# Altium integrated library TI_Logic_Specialty_Logic.IntLib: 2504 symbols (part 59 of 81)
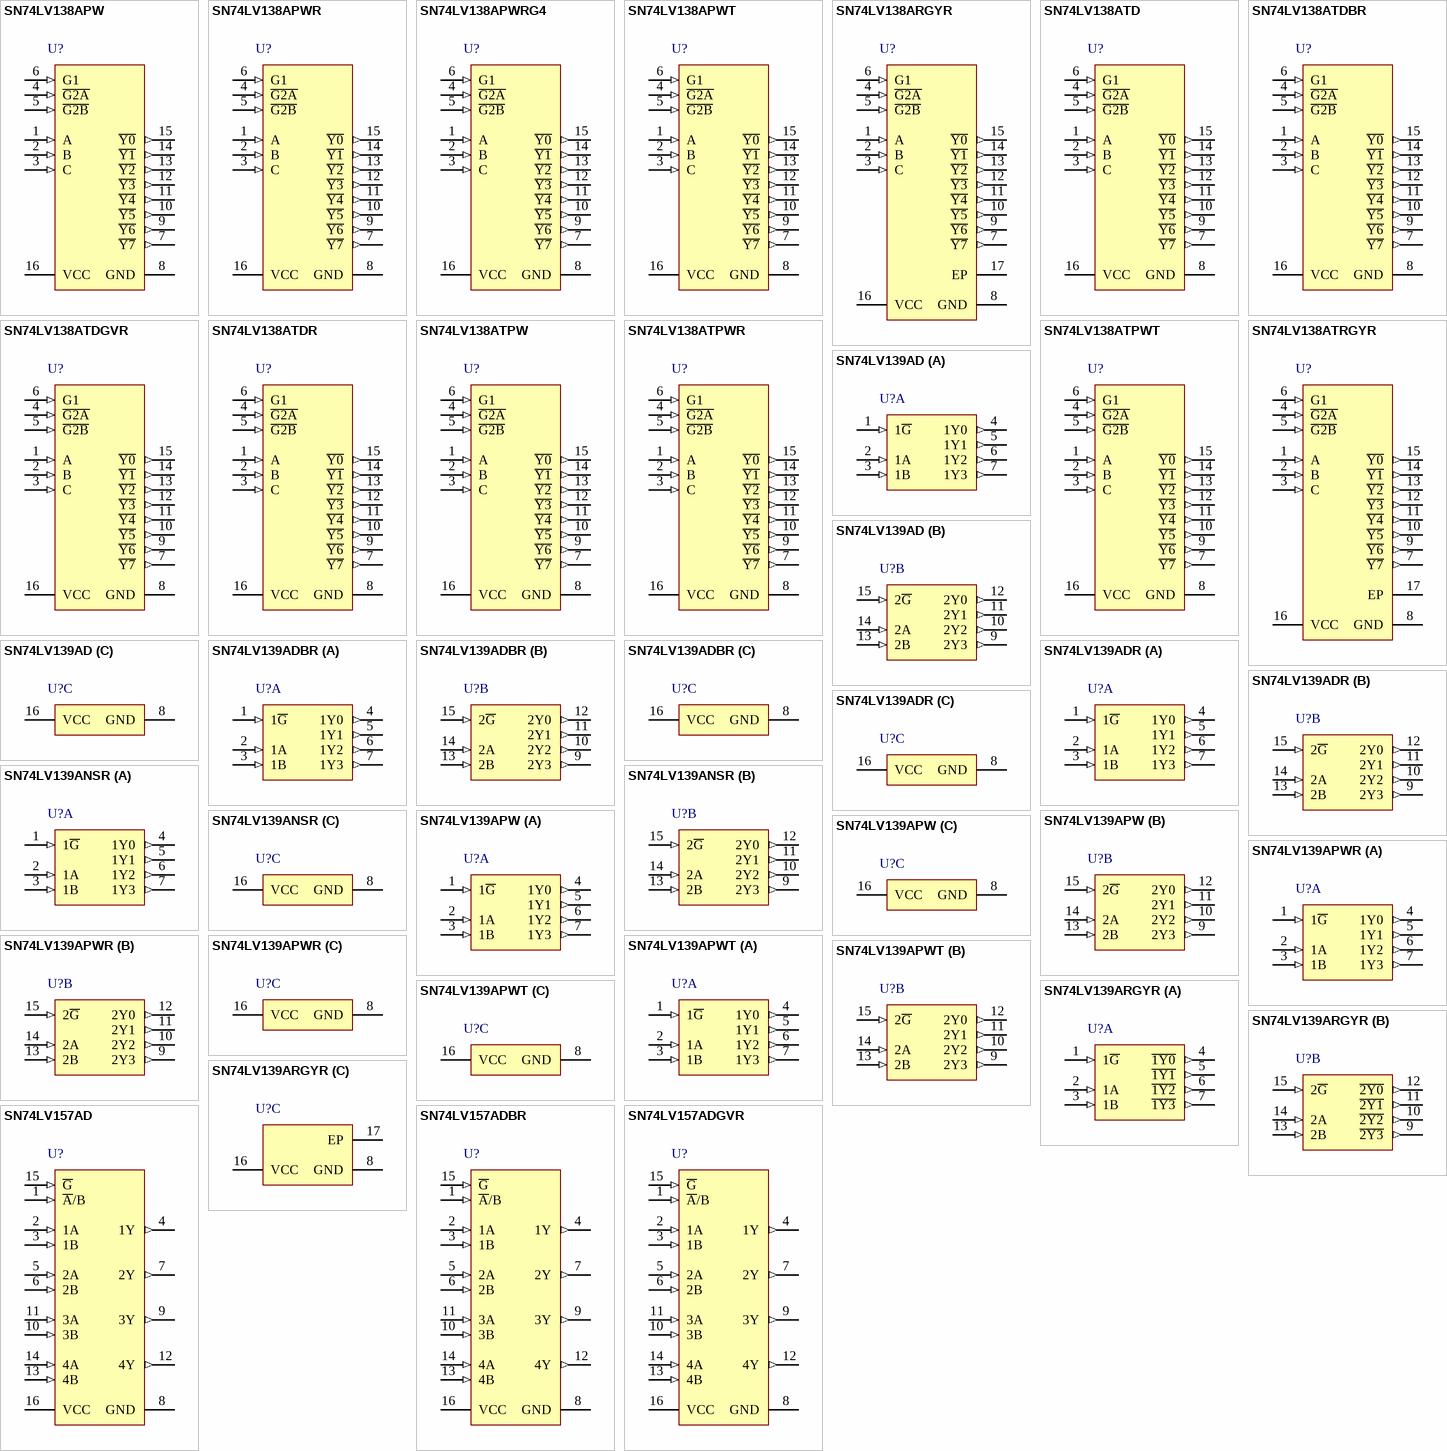
[diagram p162: symbols SN74LV138APW to SN74LV157ADGVR]

## SN74LV138APWRG4
designator U?
3-Line To 8-Line Decoders/Demultiplexers, PW0016A, LARGE T&R; Generic Part Number: SN74LV138A; Manufacturer: Texas Instruments; PartNumber: SN74LV138APWRG4; VCC(Min)(V): 2; VCC(Max)(V): 5.5; Output Type: CMOS; Function: Decoder/Demultiplexer; ICC @ Nom Voltage(Max)(mA): 0.02; Input Type: LVTTL/CMOS; Bits(#): 8; F @ Nom Voltage(Max)(Mhz): 70; Configuration: 3：8; Channels(#): 1; Rating: Catalog; Technology Family: LV-A; Voltage(Nom)(V): 2.5,3.3,5; Schmitt Trigger: No; Output Drive (IOL/IOH)(Max)(mA): 12/-12; tpd @ Nom Voltage(Max)(ns): 22,15,9.5; DatasheetVersion: SCLS395L; PackageReference: PW0016A; Supplier 1: Mouser; Supplier Part Number 1: 595-SN74LV138APWRG4; Supplier 2: Digi-Key; Supplier Part Number 2: 296-41636-2-ND; Supplier 3: Digi-Key; Supplier Part Number 3: 296-41636-1-ND; Supplier 4: Digi-Key; Supplier Part Number 4: 296-41636-6-ND; Operating Temperature Range(C): -40 to 85; Type: Standard; Code_JEDEC: MO-153; ComponentLink1Description: Manufacturer URL; ComponentLink1URL: http://www.ti.com/; ComponentLink2Description: Datasheet; ComponentLink2URL: http://www.ti.com/lit/ds/symlink/sn74lv138a.pdf; ComponentLink3Description: Package Specification; ComponentLink3URL: http://www.ti.com/lit/ml/mpds361/mpds361.pdf
footprint PW0016A_N (SOP, 16-Leads, Body 5.1x4.5mm, Pitch 0.65mm, IPC Medium Density)
footprint PW0016A_M (SOP, 16-Leads, Body 5.1x4.5mm, Pitch 0.65mm, IPC Low Density)
footprint PW0016A_L (SOP, 16-Leads, Body 5.1x4.5mm, Pitch 0.65mm, IPC High Density)
pins: 1 A (in), 2 B (in), 3 C (in), 4 ~{G2A} (in), 5 ~{G2B} (in), 6 G1 (in), 7 ~{Y7} (out), 8 GND (power), 9 ~{Y6} (out), 10 ~{Y5} (out), 11 ~{Y4} (out), 12 ~{Y3} (out), 13 ~{Y2} (out), 14 ~{Y1} (out), 15 ~{Y0} (out), 16 VCC (power)

## SN74LV138APWT
designator U?
3-Line To 8-Line Decoders/Demultiplexers, PW0016A, SMALL T&R; Generic Part Number: SN74LV138A; Manufacturer: Texas Instruments; PartNumber: SN74LV138APWT; VCC(Min)(V): 2; VCC(Max)(V): 5.5; Output Type: CMOS; Function: Decoder/Demultiplexer; ICC @ Nom Voltage(Max)(mA): 0.02; Input Type: LVTTL/CMOS; Bits(#): 8; F @ Nom Voltage(Max)(Mhz): 70; Configuration: 3：8; Channels(#): 1; Rating: Catalog; Technology Family: LV-A; Voltage(Nom)(V): 2.5,3.3,5; Schmitt Trigger: No; Output Drive (IOL/IOH)(Max)(mA): 12/-12; tpd @ Nom Voltage(Max)(ns): 22,15,9.5; DatasheetVersion: SCLS395L; PackageReference: PW0016A; Supplier 1: Mouser; Supplier Part Number 1: 595-SN74LV138APWT; Supplier 2: Digi-Key; Supplier Part Number 2: 296-28664-2-ND; Supplier 3: Digi-Key; Supplier Part Number 3: 296-28664-1-ND; Supplier 4: Digi-Key; Supplier Part Number 4: 296-28664-6-ND; Operating Temperature Range(C): -40 to 85; Type: Standard; Code_JEDEC: MO-153; ComponentLink1Description: Manufacturer URL; ComponentLink1URL: http://www.ti.com/; ComponentLink2Description: Datasheet; ComponentLink2URL: http://www.ti.com/lit/ds/symlink/sn74lv138a.pdf; ComponentLink3Description: Package Specification; ComponentLink3URL: http://www.ti.com/lit/ml/mpds361/mpds361.pdf
footprint PW0016A_N (SOP, 16-Leads, Body 5.1x4.5mm, Pitch 0.65mm, IPC Medium Density)
footprint PW0016A_M (SOP, 16-Leads, Body 5.1x4.5mm, Pitch 0.65mm, IPC Low Density)
footprint PW0016A_L (SOP, 16-Leads, Body 5.1x4.5mm, Pitch 0.65mm, IPC High Density)
pins: 1 A (in), 2 B (in), 3 C (in), 4 ~{G2A} (in), 5 ~{G2B} (in), 6 G1 (in), 7 ~{Y7} (out), 8 GND (power), 9 ~{Y6} (out), 10 ~{Y5} (out), 11 ~{Y4} (out), 12 ~{Y3} (out), 13 ~{Y2} (out), 14 ~{Y1} (out), 15 ~{Y0} (out), 16 VCC (power)

## SN74LV138ARGYR
designator U?
3-Line To 8-Line Decoders/Demultiplexers, RGY0016A, LARGE T&R; Generic Part Number: SN74LV138A; Manufacturer: Texas Instruments; PartNumber: SN74LV138ARGYR; VCC(Min)(V): 2; VCC(Max)(V): 5.5; Output Type: CMOS; Function: Decoder/Demultiplexer; ICC @ Nom Voltage(Max)(mA): 0.02; Input Type: LVTTL/CMOS; Bits(#): 8; F @ Nom Voltage(Max)(Mhz): 70; Configuration: 3：8; Channels(#): 1; Rating: Catalog; Technology Family: LV-A; Voltage(Nom)(V): 2.5,3.3,5; Schmitt Trigger: No; Output Drive (IOL/IOH)(Max)(mA): 12/-12; tpd @ Nom Voltage(Max)(ns): 22,15,9.5; DatasheetVersion: SCLS395L; PackageReference: RGY0016A; Supplier 1: Mouser; Supplier Part Number 1: 595-SN74LV138ARGYR; Supplier 2: Digi-Key; Supplier Part Number 2: 296-13933-2-ND; Supplier 3: Digi-Key; Supplier Part Number 3: 296-13933-1-ND; Supplier 4: Digi-Key; Supplier Part Number 4: 296-13933-6-ND; Operating Temperature Range(C): -40 to 85; Type: Standard; Code_JEDEC: MO-241; ComponentLink1Description: Manufacturer URL; ComponentLink1URL: http://www.ti.com/; ComponentLink2Description: Datasheet; ComponentLink2URL: http://www.ti.com/lit/ds/symlink/sn74lv138a.pdf; ComponentLink3Description: Package Specification; ComponentLink3URL: http://www.ti.com/lit/ml/mpqf115g/mpqf115g.pdf
footprint RGY0016A_V (QFN, 16-Leads, Body 4x3.5mm, Thermal Pad 2.55x2.05mm, TI Recommend)
pins: 1 A (in), 2 B (in), 3 C (in), 4 ~{G2A} (in), 5 ~{G2B} (in), 6 G1 (in), 7 ~{Y7} (out), 8 GND (power), 9 ~{Y6} (out), 10 ~{Y5} (out), 11 ~{Y4} (out), 12 ~{Y3} (out), 13 ~{Y2} (out), 14 ~{Y1} (out), 15 ~{Y0} (out), 16 VCC (power), 17 EP

## SN74LV138ATD
designator U?
3-Line To 8-Line Decoder/Demultiplexers, D0016A, TUBE; Generic Part Number: SN74LV138AT; Manufacturer: Texas Instruments; PartNumber: SN74LV138ATD; VCC(Min)(V): 4.5; VCC(Max)(V): 5.5; Output Type: CMOS; ICC @ Nom Voltage(Max)(mA): 0.02; Input Type: TTL; Bits(#): 8; F @ Nom Voltage(Max)(Mhz): 70; Configuration: 3：8; Channels(#): 1; Rating: Catalog; Technology Family: LV-AT; Voltage(Nom)(V): 3.3; Schmitt Trigger: No; Output Drive (IOL/IOH)(Max)(mA): 12/-12; tpd @ Nom Voltage(Max)(ns): 13; DatasheetVersion: SCLS691; PackageReference: D0016A; Supplier 1: Mouser; Supplier Part Number 1: 595-SN74LV138ATD; Supplier 2: Digi-Key; Supplier Part Number 2: SN74LV138ATD-ND; Function: Decoder/Demultiplexer; Operating Temperature Range(C): -40 to 125; Type: Standard; Code_JEDEC: MS-012 variation AC; ComponentLink1Description: Manufacturer URL; ComponentLink1URL: http://www.ti.com/; ComponentLink2Description: Datasheet; ComponentLink2URL: http://www.ti.com/lit/ds/symlink/sn74lv138at.pdf; ComponentLink3Description: Package Specification; ComponentLink3URL: http://www.ti.com/lit/ml/mpds178g/mpds178g.pdf
footprint D0016A_N (SOIC, 16-Leads, Body 10x4mm, Pitch 1.27mm, IPC Medium Density)
footprint D0016A_M (SOIC, 16-Leads, Body 10x4mm, Pitch 1.27mm, IPC Low Density)
footprint D0016A_L (SOIC, 16-Leads, Body 10x4mm, Pitch 1.27mm, IPC High Density)
pins: 1 A (in), 2 B (in), 3 C (in), 4 ~{G2A} (in), 5 ~{G2B} (in), 6 G1 (in), 7 ~{Y7} (out), 8 GND (power), 9 ~{Y6} (out), 10 ~{Y5} (out), 11 ~{Y4} (out), 12 ~{Y3} (out), 13 ~{Y2} (out), 14 ~{Y1} (out), 15 ~{Y0} (out), 16 VCC (power)

## SN74LV138ATDBR
designator U?
3-Line To 8-Line Decoder/Demultiplexers, DB0016A, LARGE T&R; Generic Part Number: SN74LV138AT; Manufacturer: Texas Instruments; PartNumber: SN74LV138ATDBR; VCC(Min)(V): 4.5; VCC(Max)(V): 5.5; Output Type: CMOS; ICC @ Nom Voltage(Max)(mA): 0.02; Input Type: TTL; Bits(#): 8; F @ Nom Voltage(Max)(Mhz): 70; Configuration: 3：8; Channels(#): 1; Rating: Catalog; Technology Family: LV-AT; Voltage(Nom)(V): 3.3; Schmitt Trigger: No; Output Drive (IOL/IOH)(Max)(mA): 12/-12; tpd @ Nom Voltage(Max)(ns): 13; DatasheetVersion: SCLS691; PackageReference: DB0016A; Supplier 1: Mouser; Supplier Part Number 1: 595-SN74LV138ATDBR; Supplier 2: Digi-Key; Supplier Part Number 2: 296-21032-2-ND; Supplier 3: Digi-Key; Supplier Part Number 3: 296-21032-1-ND; Supplier 4: Digi-Key; Supplier Part Number 4: 296-21032-6-ND; Function: Decoder/Demultiplexer; Operating Temperature Range(C): -40 to 125; Type: Standard; Code_JEDEC: MO-150; ComponentLink1Description: Manufacturer URL; ComponentLink1URL: http://www.ti.com/; ComponentLink2Description: Datasheet; ComponentLink2URL: http://www.ti.com/lit/ds/symlink/sn74lv138at.pdf; ComponentLink3Description: Package Specification; ComponentLink3URL: http://www.ti.com/lit/ml/mpds507/mpds507.pdf
footprint DB0016A_N (SOP, 16-Leads, Body 5.6x6.5mm, Pitch 0.65mm, IPC Medium Density)
footprint DB0016A_M (SOP, 16-Leads, Body 5.6x6.5mm, Pitch 0.65mm, IPC Low Density)
footprint DB0016A_L (SOP, 16-Leads, Body 5.6x6.5mm, Pitch 0.65mm, IPC High Density)
pins: 1 A (in), 2 B (in), 3 C (in), 4 ~{G2A} (in), 5 ~{G2B} (in), 6 G1 (in), 7 ~{Y7} (out), 8 GND (power), 9 ~{Y6} (out), 10 ~{Y5} (out), 11 ~{Y4} (out), 12 ~{Y3} (out), 13 ~{Y2} (out), 14 ~{Y1} (out), 15 ~{Y0} (out), 16 VCC (power)

## SN74LV138ATDGVR
designator U?
3-Line To 8-Line Decoder/Demultiplexers, DGV0016A, LARGE T&R; Generic Part Number: SN74LV138AT; Manufacturer: Texas Instruments; PartNumber: SN74LV138ATDGVR; VCC(Min)(V): 4.5; VCC(Max)(V): 5.5; Output Type: CMOS; ICC @ Nom Voltage(Max)(mA): 0.02; Input Type: TTL; Bits(#): 8; F @ Nom Voltage(Max)(Mhz): 70; Configuration: 3：8; Channels(#): 1; Rating: Catalog; Technology Family: LV-AT; Voltage(Nom)(V): 3.3; Schmitt Trigger: No; Output Drive (IOL/IOH)(Max)(mA): 12/-12; tpd @ Nom Voltage(Max)(ns): 13; DatasheetVersion: SCLS691; PackageReference: DGV0016A; Supplier 1: Mouser; Supplier Part Number 1: 595-SN74LV138ATDGVR; Supplier 2: Digi-Key; Supplier Part Number 2: 296-21033-2-ND; Supplier 3: Digi-Key; Supplier Part Number 3: 296-21033-1-ND; Supplier 4: Digi-Key; Supplier Part Number 4: 296-21033-6-ND; Function: Decoder/Demultiplexer; Operating Temperature Range(C): -40 to 125; Type: Standard; Code_JEDEC: MO-194; ComponentLink1Description: Manufacturer URL; ComponentLink1URL: http://www.ti.com/; ComponentLink2Description: Datasheet; ComponentLink2URL: http://www.ti.com/lit/ds/symlink/sn74lv138at.pdf; ComponentLink3Description: Package Specification; ComponentLink3URL: http://www.ti.com/lit/ml/mpds006c/mpds006c.pdf
footprint DGV0016A_N (SOP, 16-Leads, Body 4.5x3.7mm, Pitch 0.4mm, IPC Medium Density)
footprint DGV0016A_M (SOP, 16-Leads, Body 4.5x3.7mm, Pitch 0.4mm, IPC Low Density)
footprint DGV0016A_L (SOP, 16-Leads, Body 4.5x3.7mm, Pitch 0.4mm, IPC High Density)
pins: 1 A (in), 2 B (in), 3 C (in), 4 ~{G2A} (in), 5 ~{G2B} (in), 6 G1 (in), 7 ~{Y7} (out), 8 GND (power), 9 ~{Y6} (out), 10 ~{Y5} (out), 11 ~{Y4} (out), 12 ~{Y3} (out), 13 ~{Y2} (out), 14 ~{Y1} (out), 15 ~{Y0} (out), 16 VCC (power)

## SN74LV138ATDR
designator U?
3-Line To 8-Line Decoder/Demultiplexers, D0016A, LARGE T&R; Generic Part Number: SN74LV138AT; Manufacturer: Texas Instruments; PartNumber: SN74LV138ATDR; VCC(Min)(V): 4.5; VCC(Max)(V): 5.5; Output Type: CMOS; ICC @ Nom Voltage(Max)(mA): 0.02; Input Type: TTL; Bits(#): 8; F @ Nom Voltage(Max)(Mhz): 70; Configuration: 3：8; Channels(#): 1; Rating: Catalog; Technology Family: LV-AT; Voltage(Nom)(V): 3.3; Schmitt Trigger: No; Output Drive (IOL/IOH)(Max)(mA): 12/-12; tpd @ Nom Voltage(Max)(ns): 13; DatasheetVersion: SCLS691; PackageReference: D0016A; Supplier 1: Mouser; Supplier Part Number 1: 595-SN74LV138ATDR; Supplier 2: Digi-Key; Supplier Part Number 2: 296-21034-2-ND; Supplier 3: Digi-Key; Supplier Part Number 3: 296-21034-1-ND; Supplier 4: Digi-Key; Supplier Part Number 4: 296-21034-6-ND; Function: Decoder/Demultiplexer; Operating Temperature Range(C): -40 to 125; Type: Standard; Code_JEDEC: MS-012 variation AC; ComponentLink1Description: Manufacturer URL; ComponentLink1URL: http://www.ti.com/; ComponentLink2Description: Datasheet; ComponentLink2URL: http://www.ti.com/lit/ds/symlink/sn74lv138at.pdf; ComponentLink3Description: Package Specification; ComponentLink3URL: http://www.ti.com/lit/ml/mpds178g/mpds178g.pdf
footprint D0016A_N (SOIC, 16-Leads, Body 10x4mm, Pitch 1.27mm, IPC Medium Density)
footprint D0016A_M (SOIC, 16-Leads, Body 10x4mm, Pitch 1.27mm, IPC Low Density)
footprint D0016A_L (SOIC, 16-Leads, Body 10x4mm, Pitch 1.27mm, IPC High Density)
pins: 1 A (in), 2 B (in), 3 C (in), 4 ~{G2A} (in), 5 ~{G2B} (in), 6 G1 (in), 7 ~{Y7} (out), 8 GND (power), 9 ~{Y6} (out), 10 ~{Y5} (out), 11 ~{Y4} (out), 12 ~{Y3} (out), 13 ~{Y2} (out), 14 ~{Y1} (out), 15 ~{Y0} (out), 16 VCC (power)

## SN74LV138ATPW
designator U?
3-Line To 8-Line Decoder/Demultiplexers, PW0016A, TUBE; Generic Part Number: SN74LV138AT; Manufacturer: Texas Instruments; PartNumber: SN74LV138ATPW; VCC(Min)(V): 4.5; VCC(Max)(V): 5.5; Output Type: CMOS; ICC @ Nom Voltage(Max)(mA): 0.02; Input Type: TTL; Bits(#): 8; F @ Nom Voltage(Max)(Mhz): 70; Configuration: 3：8; Channels(#): 1; Rating: Catalog; Technology Family: LV-AT; Voltage(Nom)(V): 3.3; Schmitt Trigger: No; Output Drive (IOL/IOH)(Max)(mA): 12/-12; tpd @ Nom Voltage(Max)(ns): 13; DatasheetVersion: SCLS691; PackageReference: PW0016A; Supplier 1: Mouser; Supplier Part Number 1: 595-SN74LV138ATPW; Supplier 2: Digi-Key; Supplier Part Number 2: 296-34038-5-ND; Function: Decoder/Demultiplexer; Operating Temperature Range(C): -40 to 125; Type: Standard; Code_JEDEC: MO-153; ComponentLink1Description: Manufacturer URL; ComponentLink1URL: http://www.ti.com/; ComponentLink2Description: Datasheet; ComponentLink2URL: http://www.ti.com/lit/ds/symlink/sn74lv138at.pdf; ComponentLink3Description: Package Specification; ComponentLink3URL: http://www.ti.com/lit/ml/mpds361/mpds361.pdf
footprint PW0016A_N (SOP, 16-Leads, Body 5.1x4.5mm, Pitch 0.65mm, IPC Medium Density)
footprint PW0016A_M (SOP, 16-Leads, Body 5.1x4.5mm, Pitch 0.65mm, IPC Low Density)
footprint PW0016A_L (SOP, 16-Leads, Body 5.1x4.5mm, Pitch 0.65mm, IPC High Density)
pins: 1 A (in), 2 B (in), 3 C (in), 4 ~{G2A} (in), 5 ~{G2B} (in), 6 G1 (in), 7 ~{Y7} (out), 8 GND (power), 9 ~{Y6} (out), 10 ~{Y5} (out), 11 ~{Y4} (out), 12 ~{Y3} (out), 13 ~{Y2} (out), 14 ~{Y1} (out), 15 ~{Y0} (out), 16 VCC (power)

## SN74LV138ATPWR
designator U?
3-Line To 8-Line Decoder/Demultiplexers, PW0016A, LARGE T&R; Generic Part Number: SN74LV138AT; Manufacturer: Texas Instruments; PartNumber: SN74LV138ATPWR; VCC(Min)(V): 4.5; VCC(Max)(V): 5.5; Output Type: CMOS; ICC @ Nom Voltage(Max)(mA): 0.02; Input Type: TTL; Bits(#): 8; F @ Nom Voltage(Max)(Mhz): 70; Configuration: 3：8; Channels(#): 1; Rating: Catalog; Technology Family: LV-AT; Voltage(Nom)(V): 3.3; Schmitt Trigger: No; Output Drive (IOL/IOH)(Max)(mA): 12/-12; tpd @ Nom Voltage(Max)(ns): 13; DatasheetVersion: SCLS691; PackageReference: PW0016A; Supplier 1: Mouser; Supplier Part Number 1: 595-SN74LV138ATPWR; Supplier 2: Digi-Key; Supplier Part Number 2: 296-21036-2-ND; Supplier 3: Digi-Key; Supplier Part Number 3: 296-21036-1-ND; Supplier 4: Digi-Key; Supplier Part Number 4: 296-21036-6-ND; Function: Decoder/Demultiplexer; Operating Temperature Range(C): -40 to 125; Type: Standard; Code_JEDEC: MO-153; ComponentLink1Description: Manufacturer URL; ComponentLink1URL: http://www.ti.com/; ComponentLink2Description: Datasheet; ComponentLink2URL: http://www.ti.com/lit/ds/symlink/sn74lv138at.pdf; ComponentLink3Description: Package Specification; ComponentLink3URL: http://www.ti.com/lit/ml/mpds361/mpds361.pdf
footprint PW0016A_N (SOP, 16-Leads, Body 5.1x4.5mm, Pitch 0.65mm, IPC Medium Density)
footprint PW0016A_M (SOP, 16-Leads, Body 5.1x4.5mm, Pitch 0.65mm, IPC Low Density)
footprint PW0016A_L (SOP, 16-Leads, Body 5.1x4.5mm, Pitch 0.65mm, IPC High Density)
pins: 1 A (in), 2 B (in), 3 C (in), 4 ~{G2A} (in), 5 ~{G2B} (in), 6 G1 (in), 7 ~{Y7} (out), 8 GND (power), 9 ~{Y6} (out), 10 ~{Y5} (out), 11 ~{Y4} (out), 12 ~{Y3} (out), 13 ~{Y2} (out), 14 ~{Y1} (out), 15 ~{Y0} (out), 16 VCC (power)

## SN74LV138ATPWT
designator U?
3-Line To 8-Line Decoder/Demultiplexers, PW0016A, SMALL T&R; Generic Part Number: SN74LV138AT; Manufacturer: Texas Instruments; PartNumber: SN74LV138ATPWT; VCC(Min)(V): 4.5; VCC(Max)(V): 5.5; Output Type: CMOS; ICC @ Nom Voltage(Max)(mA): 0.02; Input Type: TTL; Bits(#): 8; F @ Nom Voltage(Max)(Mhz): 70; Configuration: 3：8; Channels(#): 1; Rating: Catalog; Technology Family: LV-AT; Voltage(Nom)(V): 3.3; Schmitt Trigger: No; Output Drive (IOL/IOH)(Max)(mA): 12/-12; tpd @ Nom Voltage(Max)(ns): 13; DatasheetVersion: SCLS691; PackageReference: PW0016A; Supplier 1: Mouser; Supplier Part Number 1: 595-SN74LV138ATPWT; Supplier 2: Digi-Key; Supplier Part Number 2: 296-28629-2-ND; Supplier 3: Digi-Key; Supplier Part Number 3: 296-28629-1-ND; Supplier 4: Digi-Key; Supplier Part Number 4: 296-28629-6-ND; Function: Decoder/Demultiplexer; Operating Temperature Range(C): -40 to 125; Type: Standard; Code_JEDEC: MO-153; ComponentLink1Description: Manufacturer URL; ComponentLink1URL: http://www.ti.com/; ComponentLink2Description: Datasheet; ComponentLink2URL: http://www.ti.com/lit/ds/symlink/sn74lv138at.pdf; ComponentLink3Description: Package Specification; ComponentLink3URL: http://www.ti.com/lit/ml/mpds361/mpds361.pdf
footprint PW0016A_N (SOP, 16-Leads, Body 5.1x4.5mm, Pitch 0.65mm, IPC Medium Density)
footprint PW0016A_M (SOP, 16-Leads, Body 5.1x4.5mm, Pitch 0.65mm, IPC Low Density)
footprint PW0016A_L (SOP, 16-Leads, Body 5.1x4.5mm, Pitch 0.65mm, IPC High Density)
pins: 1 A (in), 2 B (in), 3 C (in), 4 ~{G2A} (in), 5 ~{G2B} (in), 6 G1 (in), 7 ~{Y7} (out), 8 GND (power), 9 ~{Y6} (out), 10 ~{Y5} (out), 11 ~{Y4} (out), 12 ~{Y3} (out), 13 ~{Y2} (out), 14 ~{Y1} (out), 15 ~{Y0} (out), 16 VCC (power)

## SN74LV138ATRGYR
designator U?
3-Line To 8-Line Decoder/Demultiplexers, RGY0016A, LARGE T&R; Generic Part Number: SN74LV138AT; Manufacturer: Texas Instruments; PartNumber: SN74LV138ATRGYR; VCC(Min)(V): 4.5; VCC(Max)(V): 5.5; Output Type: CMOS; ICC @ Nom Voltage(Max)(mA): 0.02; Input Type: TTL; Bits(#): 8; F @ Nom Voltage(Max)(Mhz): 70; Configuration: 3：8; Channels(#): 1; Rating: Catalog; Technology Family: LV-AT; Voltage(Nom)(V): 3.3; Schmitt Trigger: No; Output Drive (IOL/IOH)(Max)(mA): 12/-12; tpd @ Nom Voltage(Max)(ns): 13; DatasheetVersion: SCLS691; PackageReference: RGY0016A; Supplier 1: Mouser; Supplier Part Number 1: 595-SN74LV138ATRGYR; Supplier 2: Digi-Key; Supplier Part Number 2: 296-21037-2-ND; Supplier 3: Digi-Key; Supplier Part Number 3: 296-21037-1-ND; Supplier 4: Digi-Key; Supplier Part Number 4: 296-21037-6-ND; Function: Decoder/Demultiplexer; Operating Temperature Range(C): -40 to 125; Type: Standard; Code_JEDEC: MO-241; ComponentLink1Description: Manufacturer URL; ComponentLink1URL: http://www.ti.com/; ComponentLink2Description: Datasheet; ComponentLink2URL: http://www.ti.com/lit/ds/symlink/sn74lv138at.pdf; ComponentLink3Description: Package Specification; ComponentLink3URL: http://www.ti.com/lit/ml/mpqf115g/mpqf115g.pdf
footprint RGY0016A_V (QFN, 16-Leads, Body 4x3.5mm, Thermal Pad 2.55x2.05mm, TI Recommend)
pins: 1 A (in), 2 B (in), 3 C (in), 4 ~{G2A} (in), 5 ~{G2B} (in), 6 G1 (in), 7 ~{Y7} (out), 8 GND (power), 9 ~{Y6} (out), 10 ~{Y5} (out), 11 ~{Y4} (out), 12 ~{Y3} (out), 13 ~{Y2} (out), 14 ~{Y1} (out), 15 ~{Y0} (out), 16 VCC (power), 17 EP

## SN74LV139AD
designator U?
Dual 2-Line To 4-Line Decoders/Demultiplexers, D0016A, TUBE; Generic Part Number: SN74LV139A; Manufacturer: Texas Instruments; PartNumber: SN74LV139AD; VCC(Min)(V): 2; VCC(Max)(V): 5.5; Output Type: CMOS; Function: Decoder/Demultiplexer; ICC @ Nom Voltage(Max)(mA): 0.02; Input Type: LVTTL/CMOS; Bits(#): 4; F @ Nom Voltage(Max)(Mhz): 70; Configuration: 2：4; Rating: Catalog; Technology Family: LV-A; Voltage(Nom)(V): 2.5,3.3,5; Schmitt Trigger: No; Output Drive (IOL/IOH)(Max)(mA): 12/-12; tpd @ Nom Voltage(Max)(ns): 21,13,8.5; DatasheetVersion: SCLS396I; PackageReference: D0016A; Supplier 1: Mouser; Supplier Part Number 1: 595-SN74LV139AD; Supplier 2: Digi-Key; Supplier Part Number 2: 296-1677-5-ND; Operating Temperature Range(C): -40 to 85; Type: Standard; Channels(#): 2; Code_JEDEC: MS-012 variation AC; ComponentLink1Description: Manufacturer URL; ComponentLink1URL: http://www.ti.com/; ComponentLink2Description: Datasheet; ComponentLink2URL: http://www.ti.com/lit/ds/symlink/sn74lv139a.pdf; ComponentLink3Description: Package Specification; ComponentLink3URL: http://www.ti.com/lit/ml/mpds178g/mpds178g.pdf
footprint D0016A_N (SOIC, 16-Leads, Body 10x4mm, Pitch 1.27mm, IPC Medium Density)
footprint D0016A_M (SOIC, 16-Leads, Body 10x4mm, Pitch 1.27mm, IPC Low Density)
footprint D0016A_L (SOIC, 16-Leads, Body 10x4mm, Pitch 1.27mm, IPC High Density)
part A pins: 1 1~{G} (in), 2 1A (in), 3 1B (in), 4 1Y0 (out), 5 1Y1 (out), 6 1Y2 (out), 7 1Y3 (out)
part B pins: 9 2Y3 (out), 10 2Y2 (out), 11 2Y1 (out), 12 2Y0 (out), 13 2B (in), 14 2A (in), 15 2~{G} (in)
part C pins: 8 GND (power), 16 VCC (power)

## SN74LV139ADBR
designator U?
Dual 2-Line To 4-Line Decoders/Demultiplexers, DB0016A, LARGE T&R; Generic Part Number: SN74LV139A; Manufacturer: Texas Instruments; PartNumber: SN74LV139ADBR; VCC(Min)(V): 2; VCC(Max)(V): 5.5; Output Type: CMOS; Function: Decoder/Demultiplexer; ICC @ Nom Voltage(Max)(mA): 0.02; Input Type: LVTTL/CMOS; Bits(#): 4; F @ Nom Voltage(Max)(Mhz): 70; Configuration: 2：4; Rating: Catalog; Technology Family: LV-A; Voltage(Nom)(V): 2.5,3.3,5; Schmitt Trigger: No; Output Drive (IOL/IOH)(Max)(mA): 12/-12; tpd @ Nom Voltage(Max)(ns): 21,13,8.5; DatasheetVersion: SCLS396I; PackageReference: DB0016A; Supplier 1: Mouser; Supplier Part Number 1: 595-SN74LV139ADBR; Supplier 2: Digi-Key; Supplier Part Number 2: 296-3781-2-ND; Supplier 3: Digi-Key; Supplier Part Number 3: 296-3781-1-ND; Supplier 4: Digi-Key; Supplier Part Number 4: 296-3781-6-ND; Operating Temperature Range(C): -40 to 85; Type: Standard; Channels(#): 2; Code_JEDEC: MO-150; ComponentLink1Description: Manufacturer URL; ComponentLink1URL: http://www.ti.com/; ComponentLink2Description: Datasheet; ComponentLink2URL: http://www.ti.com/lit/ds/symlink/sn74lv139a.pdf; ComponentLink3Description: Package Specification; ComponentLink3URL: http://www.ti.com/lit/ml/mpds507/mpds507.pdf
footprint DB0016A_N (SOP, 16-Leads, Body 5.6x6.5mm, Pitch 0.65mm, IPC Medium Density)
footprint DB0016A_M (SOP, 16-Leads, Body 5.6x6.5mm, Pitch 0.65mm, IPC Low Density)
footprint DB0016A_L (SOP, 16-Leads, Body 5.6x6.5mm, Pitch 0.65mm, IPC High Density)
part A pins: 1 1~{G} (in), 2 1A (in), 3 1B (in), 4 1Y0 (out), 5 1Y1 (out), 6 1Y2 (out), 7 1Y3 (out)
part B pins: 9 2Y3 (out), 10 2Y2 (out), 11 2Y1 (out), 12 2Y0 (out), 13 2B (in), 14 2A (in), 15 2~{G} (in)
part C pins: 8 GND (power), 16 VCC (power)

## SN74LV139ADR
designator U?
Dual 2-Line To 4-Line Decoders/Demultiplexers, D0016A, LARGE T&R; Generic Part Number: SN74LV139A; Manufacturer: Texas Instruments; PartNumber: SN74LV139ADR; VCC(Min)(V): 2; VCC(Max)(V): 5.5; Output Type: CMOS; Function: Decoder/Demultiplexer; ICC @ Nom Voltage(Max)(mA): 0.02; Input Type: LVTTL/CMOS; Bits(#): 4; F @ Nom Voltage(Max)(Mhz): 70; Configuration: 2：4; Rating: Catalog; Technology Family: LV-A; Voltage(Nom)(V): 2.5,3.3,5; Schmitt Trigger: No; Output Drive (IOL/IOH)(Max)(mA): 12/-12; tpd @ Nom Voltage(Max)(ns): 21,13,8.5; DatasheetVersion: SCLS396I; PackageReference: D0016A; Supplier 1: Mouser; Supplier Part Number 1: 595-SN74LV139ADR; Supplier 2: Digi-Key; Supplier Part Number 2: 296-31866-2-ND; Supplier 3: Digi-Key; Supplier Part Number 3: 296-31866-1-ND; Supplier 4: Digi-Key; Supplier Part Number 4: 296-31866-6-ND; Operating Temperature Range(C): -40 to 85; Type: Standard; Channels(#): 2; Code_JEDEC: MS-012 variation AC; ComponentLink1Description: Manufacturer URL; ComponentLink1URL: http://www.ti.com/; ComponentLink2Description: Datasheet; ComponentLink2URL: http://www.ti.com/lit/ds/symlink/sn74lv139a.pdf; ComponentLink3Description: Package Specification; ComponentLink3URL: http://www.ti.com/lit/ml/mpds178g/mpds178g.pdf
footprint D0016A_N (SOIC, 16-Leads, Body 10x4mm, Pitch 1.27mm, IPC Medium Density)
footprint D0016A_M (SOIC, 16-Leads, Body 10x4mm, Pitch 1.27mm, IPC Low Density)
footprint D0016A_L (SOIC, 16-Leads, Body 10x4mm, Pitch 1.27mm, IPC High Density)
part A pins: 1 1~{G} (in), 2 1A (in), 3 1B (in), 4 1Y0 (out), 5 1Y1 (out), 6 1Y2 (out), 7 1Y3 (out)
part B pins: 9 2Y3 (out), 10 2Y2 (out), 11 2Y1 (out), 12 2Y0 (out), 13 2B (in), 14 2A (in), 15 2~{G} (in)
part C pins: 8 GND (power), 16 VCC (power)

## SN74LV139ANSR
designator U?
Dual 2-Line To 4-Line Decoders/Demultiplexers, NS0016A, LARGE T&R; Generic Part Number: SN74LV139A; Manufacturer: Texas Instruments; PartNumber: SN74LV139ANSR; VCC(Min)(V): 2; VCC(Max)(V): 5.5; Output Type: CMOS; Function: Decoder/Demultiplexer; ICC @ Nom Voltage(Max)(mA): 0.02; Input Type: LVTTL/CMOS; Bits(#): 4; F @ Nom Voltage(Max)(Mhz): 70; Configuration: 2：4; Rating: Catalog; Technology Family: LV-A; Voltage(Nom)(V): 2.5,3.3,5; Schmitt Trigger: No; Output Drive (IOL/IOH)(Max)(mA): 12/-12; tpd @ Nom Voltage(Max)(ns): 21,13,8.5; DatasheetVersion: SCLS396I; PackageReference: NS0016A; Supplier 1: Mouser; Supplier Part Number 1: 595-SN74LV139ANSR; Supplier 2: Digi-Key; Supplier Part Number 2: 296-28945-2-ND; Supplier 3: Digi-Key; Supplier Part Number 3: 296-28945-1-ND; Supplier 4: Digi-Key; Supplier Part Number 4: 296-28945-6-ND; Operating Temperature Range(C): -40 to 85; Type: Standard; Channels(#): 2; ComponentLink1Description: Manufacturer URL; ComponentLink1URL: http://www.ti.com/; ComponentLink2Description: Datasheet; ComponentLink2URL: http://www.ti.com/lit/ds/symlink/sn74lv139a.pdf; ComponentLink3Description: Package Specification; ComponentLink3URL: http://www.ti.com/lit/ml/msop002a/msop002a.pdf
footprint NS0016A_N (SOIC,16-Leads,Body 10.5x5.6mm,Pitch 1.27mm,IPC Medium Density)
footprint NS0016A_M (SOIC,16-Leads,Body 10.5x5.6mm,Pitch 1.27mm,IPC Low Density)
footprint NS0016A_L (SOIC,16-Leads,Body 10.5x5.6mm,Pitch 1.27mm,IPC High Density)
part A pins: 1 1~{G} (in), 2 1A (in), 3 1B (in), 4 1Y0 (out), 5 1Y1 (out), 6 1Y2 (out), 7 1Y3 (out)
part B pins: 9 2Y3 (out), 10 2Y2 (out), 11 2Y1 (out), 12 2Y0 (out), 13 2B (in), 14 2A (in), 15 2~{G} (in)
part C pins: 8 GND (power), 16 VCC (power)

## SN74LV139APW
designator U?
Dual 2-Line To 4-Line Decoders/Demultiplexers, PW0016A, TUBE; Generic Part Number: SN74LV139A; Manufacturer: Texas Instruments; PartNumber: SN74LV139APW; VCC(Min)(V): 2; VCC(Max)(V): 5.5; Output Type: CMOS; Function: Decoder/Demultiplexer; ICC @ Nom Voltage(Max)(mA): 0.02; Input Type: LVTTL/CMOS; Bits(#): 4; F @ Nom Voltage(Max)(Mhz): 70; Configuration: 2：4; Rating: Catalog; Technology Family: LV-A; Voltage(Nom)(V): 2.5,3.3,5; Schmitt Trigger: No; Output Drive (IOL/IOH)(Max)(mA): 12/-12; tpd @ Nom Voltage(Max)(ns): 21,13,8.5; DatasheetVersion: SCLS396I; PackageReference: PW0016A; Supplier 1: Mouser; Supplier Part Number 1: 595-SN74LV139APW; Supplier 2: Digi-Key; Supplier Part Number 2: 296-26541-5-ND; Operating Temperature Range(C): -40 to 85; Type: Standard; Channels(#): 2; Code_JEDEC: MO-153; ComponentLink1Description: Manufacturer URL; ComponentLink1URL: http://www.ti.com/; ComponentLink2Description: Datasheet; ComponentLink2URL: http://www.ti.com/lit/ds/symlink/sn74lv139a.pdf; ComponentLink3Description: Package Specification; ComponentLink3URL: http://www.ti.com/lit/ml/mpds361/mpds361.pdf
footprint PW0016A_N (SOP, 16-Leads, Body 5.1x4.5mm, Pitch 0.65mm, IPC Medium Density)
footprint PW0016A_M (SOP, 16-Leads, Body 5.1x4.5mm, Pitch 0.65mm, IPC Low Density)
footprint PW0016A_L (SOP, 16-Leads, Body 5.1x4.5mm, Pitch 0.65mm, IPC High Density)
part A pins: 1 1~{G} (in), 2 1A (in), 3 1B (in), 4 1Y0 (out), 5 1Y1 (out), 6 1Y2 (out), 7 1Y3 (out)
part B pins: 9 2Y3 (out), 10 2Y2 (out), 11 2Y1 (out), 12 2Y0 (out), 13 2B (in), 14 2A (in), 15 2~{G} (in)
part C pins: 8 GND (power), 16 VCC (power)

## SN74LV139APWR
designator U?
Dual 2-Line To 4-Line Decoders/Demultiplexers, PW0016A, LARGE T&R; Generic Part Number: SN74LV139A; Manufacturer: Texas Instruments; PartNumber: SN74LV139APWR; VCC(Min)(V): 2; VCC(Max)(V): 5.5; Output Type: CMOS; Function: Decoder/Demultiplexer; ICC @ Nom Voltage(Max)(mA): 0.02; Input Type: LVTTL/CMOS; Bits(#): 4; F @ Nom Voltage(Max)(Mhz): 70; Configuration: 2：4; Rating: Catalog; Technology Family: LV-A; Voltage(Nom)(V): 2.5,3.3,5; Schmitt Trigger: No; Output Drive (IOL/IOH)(Max)(mA): 12/-12; tpd @ Nom Voltage(Max)(ns): 21,13,8.5; DatasheetVersion: SCLS396I; PackageReference: PW0016A; Supplier 1: Mouser; Supplier Part Number 1: 595-SN74LV139APWR; Supplier 2: Digi-Key; Supplier Part Number 2: 296-3782-2-ND; Supplier 3: Digi-Key; Supplier Part Number 3: 296-3782-1-ND; Supplier 4: Digi-Key; Supplier Part Number 4: 296-3782-6-ND; Operating Temperature Range(C): -40 to 85; Type: Standard; Channels(#): 2; Code_JEDEC: MO-153; ComponentLink1Description: Manufacturer URL; ComponentLink1URL: http://www.ti.com/; ComponentLink2Description: Datasheet; ComponentLink2URL: http://www.ti.com/lit/ds/symlink/sn74lv139a.pdf; ComponentLink3Description: Package Specification; ComponentLink3URL: http://www.ti.com/lit/ml/mpds361/mpds361.pdf
footprint PW0016A_N (SOP, 16-Leads, Body 5.1x4.5mm, Pitch 0.65mm, IPC Medium Density)
footprint PW0016A_M (SOP, 16-Leads, Body 5.1x4.5mm, Pitch 0.65mm, IPC Low Density)
footprint PW0016A_L (SOP, 16-Leads, Body 5.1x4.5mm, Pitch 0.65mm, IPC High Density)
part A pins: 1 1~{G} (in), 2 1A (in), 3 1B (in), 4 1Y0 (out), 5 1Y1 (out), 6 1Y2 (out), 7 1Y3 (out)
part B pins: 9 2Y3 (out), 10 2Y2 (out), 11 2Y1 (out), 12 2Y0 (out), 13 2B (in), 14 2A (in), 15 2~{G} (in)
part C pins: 8 GND (power), 16 VCC (power)

## SN74LV139APWT
designator U?
Dual 2-Line To 4-Line Decoders/Demultiplexers, PW0016A, SMALL T&R; Generic Part Number: SN74LV139A; Manufacturer: Texas Instruments; PartNumber: SN74LV139APWT; VCC(Min)(V): 2; VCC(Max)(V): 5.5; Output Type: CMOS; Function: Decoder/Demultiplexer; ICC @ Nom Voltage(Max)(mA): 0.02; Input Type: LVTTL/CMOS; Bits(#): 4; F @ Nom Voltage(Max)(Mhz): 70; Configuration: 2：4; Rating: Catalog; Technology Family: LV-A; Voltage(Nom)(V): 2.5,3.3,5; Schmitt Trigger: No; Output Drive (IOL/IOH)(Max)(mA): 12/-12; tpd @ Nom Voltage(Max)(ns): 21,13,8.5; DatasheetVersion: SCLS396I; PackageReference: PW0016A; Supplier 1: Mouser; Supplier Part Number 1: 595-SN74LV139APWT; Supplier 2: Digi-Key; Supplier Part Number 2: SN74LV139APWT-ND; Operating Temperature Range(C): -40 to 85; Type: Standard; Channels(#): 2; Code_JEDEC: MO-153; ComponentLink1Description: Manufacturer URL; ComponentLink1URL: http://www.ti.com/; ComponentLink2Description: Datasheet; ComponentLink2URL: http://www.ti.com/lit/ds/symlink/sn74lv139a.pdf; ComponentLink3Description: Package Specification; ComponentLink3URL: http://www.ti.com/lit/ml/mpds361/mpds361.pdf
footprint PW0016A_N (SOP, 16-Leads, Body 5.1x4.5mm, Pitch 0.65mm, IPC Medium Density)
footprint PW0016A_M (SOP, 16-Leads, Body 5.1x4.5mm, Pitch 0.65mm, IPC Low Density)
footprint PW0016A_L (SOP, 16-Leads, Body 5.1x4.5mm, Pitch 0.65mm, IPC High Density)
part A pins: 1 1~{G} (in), 2 1A (in), 3 1B (in), 4 1Y0 (out), 5 1Y1 (out), 6 1Y2 (out), 7 1Y3 (out)
part B pins: 9 2Y3 (out), 10 2Y2 (out), 11 2Y1 (out), 12 2Y0 (out), 13 2B (in), 14 2A (in), 15 2~{G} (in)
part C pins: 8 GND (power), 16 VCC (power)

## SN74LV139ARGYR
designator U?
Dual 2-Line To 4-Line Decoders/Demultiplexers, RGY0016A, LARGE T&R; Generic Part Number: SN74LV139A; Manufacturer: Texas Instruments; PartNumber: SN74LV139ARGYR; VCC(Min)(V): 2; VCC(Max)(V): 5.5; Output Type: CMOS; Function: Decoder/Demultiplexer; ICC @ Nom Voltage(Max)(mA): 0.02; Input Type: LVTTL/CMOS; Bits(#): 4; F @ Nom Voltage(Max)(Mhz): 70; Configuration: 2：4; Rating: Catalog; Technology Family: LV-A; Voltage(Nom)(V): 2.5,3.3,5; Schmitt Trigger: No; Output Drive (IOL/IOH)(Max)(mA): 12/-12; tpd @ Nom Voltage(Max)(ns): 21,13,8.5; DatasheetVersion: SCLS396I; PackageReference: RGY0016A; Supplier 1: Mouser; Supplier Part Number 1: 595-SN74LV139ARGYR; Supplier 2: Digi-Key; Supplier Part Number 2: 296-13934-2-ND; Supplier 3: Digi-Key; Supplier Part Number 3: 296-13934-1-ND; Supplier 4: Digi-Key; Supplier Part Number 4: 296-13934-6-ND; Operating Temperature Range(C): -40 to 85; Type: Standard; Channels(#): 2; Code_JEDEC: MO-241; ComponentLink1Description: Manufacturer URL; ComponentLink1URL: http://www.ti.com/; ComponentLink2Description: Datasheet; ComponentLink2URL: http://www.ti.com/lit/ds/symlink/sn74lv139a.pdf; ComponentLink3Description: Package Specification; ComponentLink3URL: http://www.ti.com/lit/ml/mpqf115g/mpqf115g.pdf
footprint RGY0016A_V (QFN, 16-Leads, Body 4x3.5mm, Thermal Pad 2.55x2.05mm, TI Recommend)
part A pins: 1 1~{G} (in), 2 1A (in), 3 1B (in), 4 ~{1Y0} (out), 5 ~{1Y1} (out), 6 ~{1Y2} (out), 7 ~{1Y3} (out)
part B pins: 9 ~{2Y3} (out), 10 ~{2Y2} (out), 11 ~{2Y1} (out), 12 ~{2Y0} (out), 13 2B (in), 14 2A (in), 15 2~{G} (in)
part C pins: 8 GND (power), 16 VCC (power), 17 EP

## SN74LV157AD
designator U?
Quadruple 2-Line to 1-Line Data Selectors/Multiplexers, D0016A, TUBE; Generic Part Number: SN74LV157A; Manufacturer: Texas Instruments; PartNumber: SN74LV157AD; VCC(Min)(V): 2; VCC(Max)(V): 5.5; Output Type: CMOS; Function: Encoder/Multiplexer; ICC @ Nom Voltage(Max)(mA): 0.02; Input Type: LVTTL/CMOS; F @ Nom Voltage(Max)(Mhz): 70; Configuration: 2：1; Channels(#): 4; Rating: Catalog; Technology Family: LV-A; Voltage(Nom)(V): 2.5,3.3,5; Schmitt Trigger: No; Output Drive (IOL/IOH)(Max)(mA): 12/-12; tpd @ Nom Voltage(Max)(ns): 24,16,10; DatasheetVersion: SCLS397F; PackageReference: D0016A; Supplier 1: Mouser; Supplier Part Number 1: 595-SN74LV157AD; Supplier 2: Digi-Key; Supplier Part Number 2: 296-34039-5-ND; Bits(#): 2; Operating Temperature Range(C): -40 to 85; Type: Standard; Code_JEDEC: MS-012 variation AC; ComponentLink1Description: Manufacturer URL; ComponentLink1URL: http://www.ti.com/; ComponentLink2Description: Datasheet; ComponentLink2URL: http://www.ti.com/lit/ds/symlink/sn74lv157a.pdf; ComponentLink3Description: Package Specification; ComponentLink3URL: http://www.ti.com/lit/ml/mpds178g/mpds178g.pdf
footprint D0016A_N (SOIC, 16-Leads, Body 10x4mm, Pitch 1.27mm, IPC Medium Density)
footprint D0016A_M (SOIC, 16-Leads, Body 10x4mm, Pitch 1.27mm, IPC Low Density)
footprint D0016A_L (SOIC, 16-Leads, Body 10x4mm, Pitch 1.27mm, IPC High Density)
pins: 1 ~{A}/B (in), 2 1A (in), 3 1B (in), 4 1Y (out), 5 2A (in), 6 2B (in), 7 2Y (out), 8 GND (power), 9 3Y (out), 10 3B (in), 11 3A (in), 12 4Y (out), 13 4B (in), 14 4A (in), 15 ~{G} (in), 16 VCC (power)

## SN74LV157ADBR
designator U?
Quadruple 2-Line to 1-Line Data Selectors/Multiplexers, DB0016A, LARGE T&R; Generic Part Number: SN74LV157A; Manufacturer: Texas Instruments; PartNumber: SN74LV157ADBR; VCC(Min)(V): 2; VCC(Max)(V): 5.5; Output Type: CMOS; Function: Encoder/Multiplexer; ICC @ Nom Voltage(Max)(mA): 0.02; Input Type: LVTTL/CMOS; F @ Nom Voltage(Max)(Mhz): 70; Configuration: 2：1; Channels(#): 4; Rating: Catalog; Technology Family: LV-A; Voltage(Nom)(V): 2.5,3.3,5; Schmitt Trigger: No; Output Drive (IOL/IOH)(Max)(mA): 12/-12; tpd @ Nom Voltage(Max)(ns): 24,16,10; DatasheetVersion: SCLS397F; PackageReference: DB0016A; Supplier 1: Mouser; Supplier Part Number 1: 595-SN74LV157ADBR; Supplier 2: Digi-Key; Supplier Part Number 2: 296-9830-2-ND; Supplier 3: Digi-Key; Supplier Part Number 3: 296-9830-1-ND; Supplier 4: Digi-Key; Supplier Part Number 4: 296-9830-6-ND; Bits(#): 2; Operating Temperature Range(C): -40 to 85; Type: Standard; Code_JEDEC: MO-150; ComponentLink1Description: Manufacturer URL; ComponentLink1URL: http://www.ti.com/; ComponentLink2Description: Datasheet; ComponentLink2URL: http://www.ti.com/lit/ds/symlink/sn74lv157a.pdf; ComponentLink3Description: Package Specification; ComponentLink3URL: http://www.ti.com/lit/ml/mpds507/mpds507.pdf
footprint DB0016A_N (SOP, 16-Leads, Body 5.6x6.5mm, Pitch 0.65mm, IPC Medium Density)
footprint DB0016A_M (SOP, 16-Leads, Body 5.6x6.5mm, Pitch 0.65mm, IPC Low Density)
footprint DB0016A_L (SOP, 16-Leads, Body 5.6x6.5mm, Pitch 0.65mm, IPC High Density)
pins: 1 ~{A}/B (in), 2 1A (in), 3 1B (in), 4 1Y (out), 5 2A (in), 6 2B (in), 7 2Y (out), 8 GND (power), 9 3Y (out), 10 3B (in), 11 3A (in), 12 4Y (out), 13 4B (in), 14 4A (in), 15 ~{G} (in), 16 VCC (power)

## SN74LV157ADGVR
designator U?
Quadruple 2-Line to 1-Line Data Selectors/Multiplexers, DGV0016A, LARGE T&R; Generic Part Number: SN74LV157A; Manufacturer: Texas Instruments; PartNumber: SN74LV157ADGVR; VCC(Min)(V): 2; VCC(Max)(V): 5.5; Output Type: CMOS; Function: Encoder/Multiplexer; ICC @ Nom Voltage(Max)(mA): 0.02; Input Type: LVTTL/CMOS; F @ Nom Voltage(Max)(Mhz): 70; Configuration: 2：1; Channels(#): 4; Rating: Catalog; Technology Family: LV-A; Voltage(Nom)(V): 2.5,3.3,5; Schmitt Trigger: No; Output Drive (IOL/IOH)(Max)(mA): 12/-12; tpd @ Nom Voltage(Max)(ns): 24,16,10; DatasheetVersion: SCLS397F; PackageReference: DGV0016A; Supplier 1: Mouser; Supplier Part Number 1: 595-SN74LV157ADGVR; Supplier 2: Digi-Key; Supplier Part Number 2: 296-9831-2-ND; Supplier 3: Digi-Key; Supplier Part Number 3: 296-9831-1-ND; Supplier 4: Digi-Key; Supplier Part Number 4: 296-9831-6-ND; Bits(#): 2; Operating Temperature Range(C): -40 to 85; Type: Standard; Code_JEDEC: MO-194; ComponentLink1Description: Manufacturer URL; ComponentLink1URL: http://www.ti.com/; ComponentLink2Description: Datasheet; ComponentLink2URL: http://www.ti.com/lit/ds/symlink/sn74lv157a.pdf; ComponentLink3Description: Package Specification; ComponentLink3URL: http://www.ti.com/lit/ml/mpds006c/mpds006c.pdf
footprint DGV0016A_N (SOP, 16-Leads, Body 4.5x3.7mm, Pitch 0.4mm, IPC Medium Density)
footprint DGV0016A_M (SOP, 16-Leads, Body 4.5x3.7mm, Pitch 0.4mm, IPC Low Density)
footprint DGV0016A_L (SOP, 16-Leads, Body 4.5x3.7mm, Pitch 0.4mm, IPC High Density)
pins: 1 ~{A}/B (in), 2 1A (in), 3 1B (in), 4 1Y (out), 5 2A (in), 6 2B (in), 7 2Y (out), 8 GND (power), 9 3Y (out), 10 3B (in), 11 3A (in), 12 4Y (out), 13 4B (in), 14 4A (in), 15 ~{G} (in), 16 VCC (power)

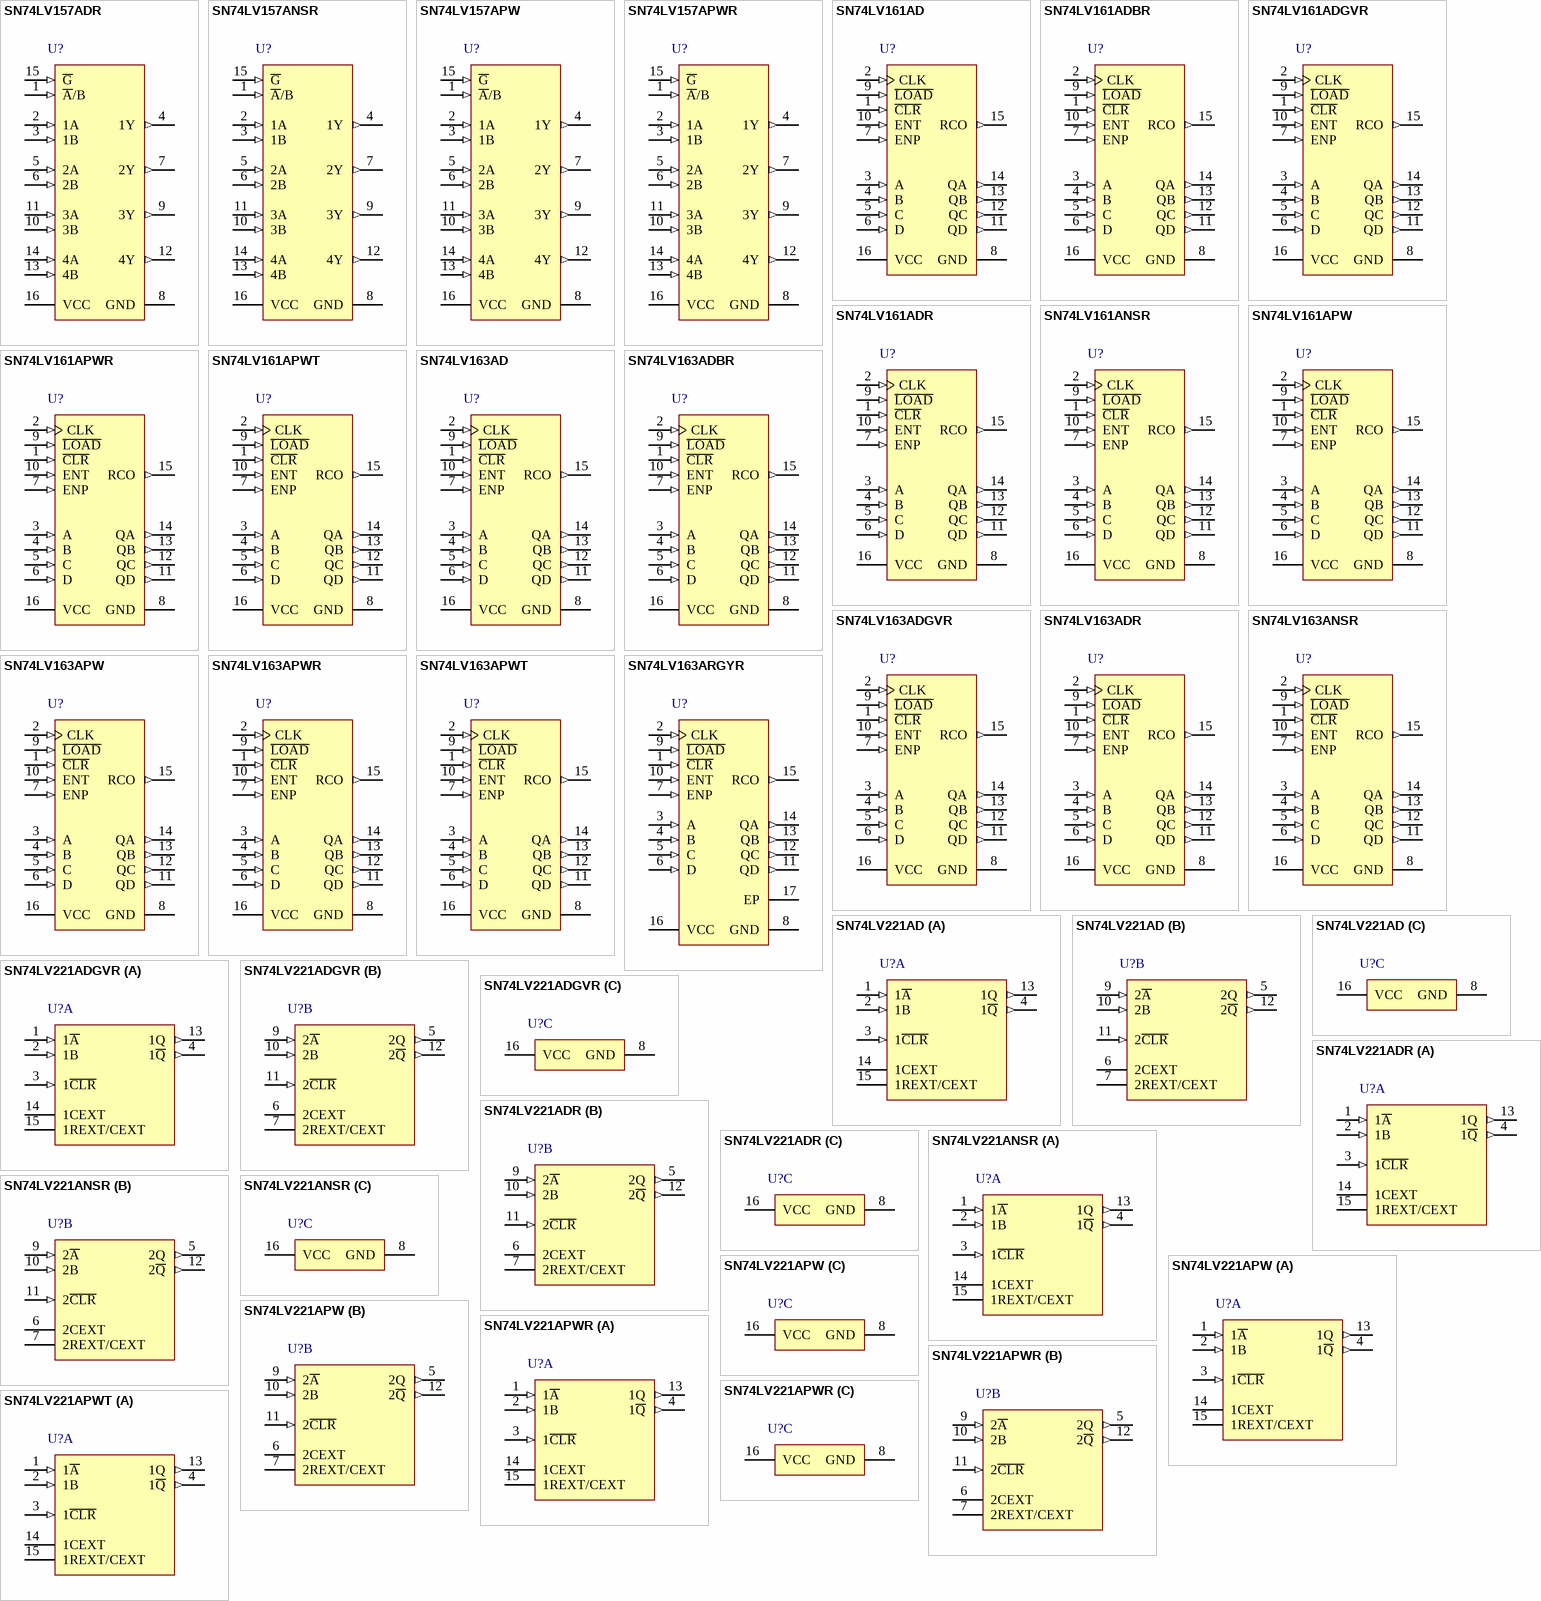
[diagram p75: symbols SN74LV157ADR to SN74LV221APWT]

## SN74LV157ADR
designator U?
Quadruple 2-Line to 1-Line Data Selectors/Multiplexers, D0016A, LARGE T&R; Generic Part Number: SN74LV157A; Manufacturer: Texas Instruments; PartNumber: SN74LV157ADR; VCC(Min)(V): 2; VCC(Max)(V): 5.5; Output Type: CMOS; Function: Encoder/Multiplexer; ICC @ Nom Voltage(Max)(mA): 0.02; Input Type: LVTTL/CMOS; F @ Nom Voltage(Max)(Mhz): 70; Configuration: 2：1; Channels(#): 4; Rating: Catalog; Technology Family: LV-A; Voltage(Nom)(V): 2.5,3.3,5; Schmitt Trigger: No; Output Drive (IOL/IOH)(Max)(mA): 12/-12; tpd @ Nom Voltage(Max)(ns): 24,16,10; DatasheetVersion: SCLS397F; PackageReference: D0016A; Supplier 1: Mouser; Supplier Part Number 1: 595-SN74LV157ADR; Supplier 2: Digi-Key; Supplier Part Number 2: 296-9832-2-ND; Supplier 3: Digi-Key; Supplier Part Number 3: 296-9832-1-ND; Supplier 4: Digi-Key; Supplier Part Number 4: 296-9832-6-ND; Bits(#): 2; Operating Temperature Range(C): -40 to 85; Type: Standard; Code_JEDEC: MS-012 variation AC; ComponentLink1Description: Manufacturer URL; ComponentLink1URL: http://www.ti.com/; ComponentLink2Description: Datasheet; ComponentLink2URL: http://www.ti.com/lit/ds/symlink/sn74lv157a.pdf; ComponentLink3Description: Package Specification; ComponentLink3URL: http://www.ti.com/lit/ml/mpds178g/mpds178g.pdf
footprint D0016A_N (SOIC, 16-Leads, Body 10x4mm, Pitch 1.27mm, IPC Medium Density)
footprint D0016A_M (SOIC, 16-Leads, Body 10x4mm, Pitch 1.27mm, IPC Low Density)
footprint D0016A_L (SOIC, 16-Leads, Body 10x4mm, Pitch 1.27mm, IPC High Density)
pins: 1 ~{A}/B (in), 2 1A (in), 3 1B (in), 4 1Y (out), 5 2A (in), 6 2B (in), 7 2Y (out), 8 GND (power), 9 3Y (out), 10 3B (in), 11 3A (in), 12 4Y (out), 13 4B (in), 14 4A (in), 15 ~{G} (in), 16 VCC (power)

## SN74LV157ANSR
designator U?
Quadruple 2-Line to 1-Line Data Selectors/Multiplexers, NS0016A, LARGE T&R; Generic Part Number: SN74LV157A; Manufacturer: Texas Instruments; PartNumber: SN74LV157ANSR; VCC(Min)(V): 2; VCC(Max)(V): 5.5; Output Type: CMOS; Function: Encoder/Multiplexer; ICC @ Nom Voltage(Max)(mA): 0.02; Input Type: LVTTL/CMOS; F @ Nom Voltage(Max)(Mhz): 70; Configuration: 2：1; Channels(#): 4; Rating: Catalog; Technology Family: LV-A; Voltage(Nom)(V): 2.5,3.3,5; Schmitt Trigger: No; Output Drive (IOL/IOH)(Max)(mA): 12/-12; tpd @ Nom Voltage(Max)(ns): 24,16,10; DatasheetVersion: SCLS397F; PackageReference: NS0016A; Supplier 1: Mouser; Supplier Part Number 1: 595-SN74LV157ANSR; Supplier 2: Digi-Key; Supplier Part Number 2: 296-29375-2-ND; Supplier 3: Digi-Key; Supplier Part Number 3: 296-29375-1-ND; Supplier 4: Digi-Key; Supplier Part Number 4: 296-29375-6-ND; Bits(#): 2; Operating Temperature Range(C): -40 to 85; Type: Standard; ComponentLink1Description: Manufacturer URL; ComponentLink1URL: http://www.ti.com/; ComponentLink2Description: Datasheet; ComponentLink2URL: http://www.ti.com/lit/ds/symlink/sn74lv157a.pdf; ComponentLink3Description: Package Specification; ComponentLink3URL: http://www.ti.com/lit/ml/msop002a/msop002a.pdf
footprint NS0016A_N (SOIC,16-Leads,Body 10.5x5.6mm,Pitch 1.27mm,IPC Medium Density)
footprint NS0016A_M (SOIC,16-Leads,Body 10.5x5.6mm,Pitch 1.27mm,IPC Low Density)
footprint NS0016A_L (SOIC,16-Leads,Body 10.5x5.6mm,Pitch 1.27mm,IPC High Density)
pins: 1 ~{A}/B (in), 2 1A (in), 3 1B (in), 4 1Y (out), 5 2A (in), 6 2B (in), 7 2Y (out), 8 GND (power), 9 3Y (out), 10 3B (in), 11 3A (in), 12 4Y (out), 13 4B (in), 14 4A (in), 15 ~{G} (in), 16 VCC (power)

## SN74LV157APW
designator U?
Quadruple 2-Line to 1-Line Data Selectors/Multiplexers, PW0016A, TUBE; Generic Part Number: SN74LV157A; Manufacturer: Texas Instruments; PartNumber: SN74LV157APW; VCC(Min)(V): 2; VCC(Max)(V): 5.5; Output Type: CMOS; Function: Encoder/Multiplexer; ICC @ Nom Voltage(Max)(mA): 0.02; Input Type: LVTTL/CMOS; F @ Nom Voltage(Max)(Mhz): 70; Configuration: 2：1; Channels(#): 4; Rating: Catalog; Technology Family: LV-A; Voltage(Nom)(V): 2.5,3.3,5; Schmitt Trigger: No; Output Drive (IOL/IOH)(Max)(mA): 12/-12; tpd @ Nom Voltage(Max)(ns): 24,16,10; DatasheetVersion: SCLS397F; PackageReference: PW0016A; Supplier 1: Mouser; Supplier Part Number 1: 595-SN74LV157APW; Supplier 2: Digi-Key; Supplier Part Number 2: 296-34040-5-ND; Bits(#): 2; Operating Temperature Range(C): -40 to 85; Type: Standard; Code_JEDEC: MO-153; ComponentLink1Description: Manufacturer URL; ComponentLink1URL: http://www.ti.com/; ComponentLink2Description: Datasheet; ComponentLink2URL: http://www.ti.com/lit/ds/symlink/sn74lv157a.pdf; ComponentLink3Description: Package Specification; ComponentLink3URL: http://www.ti.com/lit/ml/mpds361/mpds361.pdf
footprint PW0016A_N (SOP, 16-Leads, Body 5.1x4.5mm, Pitch 0.65mm, IPC Medium Density)
footprint PW0016A_M (SOP, 16-Leads, Body 5.1x4.5mm, Pitch 0.65mm, IPC Low Density)
footprint PW0016A_L (SOP, 16-Leads, Body 5.1x4.5mm, Pitch 0.65mm, IPC High Density)
pins: 1 ~{A}/B (in), 2 1A (in), 3 1B (in), 4 1Y (out), 5 2A (in), 6 2B (in), 7 2Y (out), 8 GND (power), 9 3Y (out), 10 3B (in), 11 3A (in), 12 4Y (out), 13 4B (in), 14 4A (in), 15 ~{G} (in), 16 VCC (power)

## SN74LV157APWR
designator U?
Quadruple 2-Line to 1-Line Data Selectors/Multiplexers, PW0016A, LARGE T&R; Generic Part Number: SN74LV157A; Manufacturer: Texas Instruments; PartNumber: SN74LV157APWR; VCC(Min)(V): 2; VCC(Max)(V): 5.5; Output Type: CMOS; Function: Encoder/Multiplexer; ICC @ Nom Voltage(Max)(mA): 0.02; Input Type: LVTTL/CMOS; F @ Nom Voltage(Max)(Mhz): 70; Configuration: 2：1; Channels(#): 4; Rating: Catalog; Technology Family: LV-A; Voltage(Nom)(V): 2.5,3.3,5; Schmitt Trigger: No; Output Drive (IOL/IOH)(Max)(mA): 12/-12; tpd @ Nom Voltage(Max)(ns): 24,16,10; DatasheetVersion: SCLS397F; PackageReference: PW0016A; Supplier 1: Mouser; Supplier Part Number 1: 595-SN74LV157APWR; Supplier 2: Digi-Key; Supplier Part Number 2: 296-9833-2-ND; Supplier 3: Digi-Key; Supplier Part Number 3: 296-9833-1-ND; Supplier 4: Digi-Key; Supplier Part Number 4: 296-9833-6-ND; Bits(#): 2; Operating Temperature Range(C): -40 to 85; Type: Standard; Code_JEDEC: MO-153; ComponentLink1Description: Manufacturer URL; ComponentLink1URL: http://www.ti.com/; ComponentLink2Description: Datasheet; ComponentLink2URL: http://www.ti.com/lit/ds/symlink/sn74lv157a.pdf; ComponentLink3Description: Package Specification; ComponentLink3URL: http://www.ti.com/lit/ml/mpds361/mpds361.pdf
footprint PW0016A_N (SOP, 16-Leads, Body 5.1x4.5mm, Pitch 0.65mm, IPC Medium Density)
footprint PW0016A_M (SOP, 16-Leads, Body 5.1x4.5mm, Pitch 0.65mm, IPC Low Density)
footprint PW0016A_L (SOP, 16-Leads, Body 5.1x4.5mm, Pitch 0.65mm, IPC High Density)
pins: 1 ~{A}/B (in), 2 1A (in), 3 1B (in), 4 1Y (out), 5 2A (in), 6 2B (in), 7 2Y (out), 8 GND (power), 9 3Y (out), 10 3B (in), 11 3A (in), 12 4Y (out), 13 4B (in), 14 4A (in), 15 ~{G} (in), 16 VCC (power)

## SN74LV161AD
designator U?
4-Bit Synchronous Binary Counters, D0016A, TUBE; Generic Part Number: SN74LV161A; Manufacturer: Texas Instruments; PartNumber: SN74LV161AD; VCC(Min)(V): 2; VCC(Max)(V): 5.5; Output Type: CMOS; Inputs: 1; ICC @ Nom Voltage(Max)(mA): 0.02; Bits(#): 4; F @ Nom Voltage(Max)(Mhz): 70,115; Rating: Catalog; Technology Family: LV-A; Voltage(Nom)(V): 2.5,3.3,5; Schmitt Trigger: No; Output Drive (IOL/IOH)(Max)(mA): 12/-12; tpd @ Nom Voltage(Max)(ns): 11.5; DatasheetVersion: SCLS404F; PackageReference: D0016A; Supplier 1: Mouser; Supplier Part Number 1: 595-SN74LV161AD; Supplier 2: Digi-Key; Supplier Part Number 2: 296-34041-5-ND; Function: Counter; Input Type: CMOS; Operating Temperature Range(C): -40 to 85; Type: Binary; Code_JEDEC: MS-012 variation AC; ComponentLink1Description: Manufacturer URL; ComponentLink1URL: http://www.ti.com/; ComponentLink2Description: Datasheet; ComponentLink2URL: http://www.ti.com/lit/ds/symlink/sn74lv161a.pdf; ComponentLink3Description: Package Specification; ComponentLink3URL: http://www.ti.com/lit/ml/mpds178g/mpds178g.pdf
footprint D0016A_N (SOIC, 16-Leads, Body 10x4mm, Pitch 1.27mm, IPC Medium Density)
footprint D0016A_M (SOIC, 16-Leads, Body 10x4mm, Pitch 1.27mm, IPC Low Density)
footprint D0016A_L (SOIC, 16-Leads, Body 10x4mm, Pitch 1.27mm, IPC High Density)
pins: 1 ~{CLR} (in), 2 CLK (in), 3 A (in), 4 B (in), 5 C (in), 6 D (in), 7 ENP (in), 8 GND (power), 9 ~{LOAD} (in), 10 ENT (in), 11 QD (out), 12 QC (out), 13 QB (out), 14 QA (out), 15 RCO (out), 16 VCC (power)

## SN74LV161ADBR
designator U?
4-Bit Synchronous Binary Counters, DB0016A, LARGE T&R; Generic Part Number: SN74LV161A; Manufacturer: Texas Instruments; PartNumber: SN74LV161ADBR; VCC(Min)(V): 2; VCC(Max)(V): 5.5; Output Type: CMOS; Inputs: 1; ICC @ Nom Voltage(Max)(mA): 0.02; Bits(#): 4; F @ Nom Voltage(Max)(Mhz): 70,115; Rating: Catalog; Technology Family: LV-A; Voltage(Nom)(V): 2.5,3.3,5; Schmitt Trigger: No; Output Drive (IOL/IOH)(Max)(mA): 12/-12; tpd @ Nom Voltage(Max)(ns): 11.5; DatasheetVersion: SCLS404F; PackageReference: DB0016A; Supplier 1: Mouser; Supplier Part Number 1: 595-SN74LV161ADBR; Supplier 2: Digi-Key; Supplier Part Number 2: 296-12342-2-ND; Supplier 3: Digi-Key; Supplier Part Number 3: 296-12342-1-ND; Supplier 4: Digi-Key; Supplier Part Number 4: 296-12342-6-ND; Function: Counter; Input Type: CMOS; Operating Temperature Range(C): -40 to 85; Type: Binary; Code_JEDEC: MO-150; ComponentLink1Description: Manufacturer URL; ComponentLink1URL: http://www.ti.com/; ComponentLink2Description: Datasheet; ComponentLink2URL: http://www.ti.com/lit/ds/symlink/sn74lv161a.pdf; ComponentLink3Description: Package Specification; ComponentLink3URL: http://www.ti.com/lit/ml/mpds507/mpds507.pdf
footprint DB0016A_N (SOP, 16-Leads, Body 5.6x6.5mm, Pitch 0.65mm, IPC Medium Density)
footprint DB0016A_M (SOP, 16-Leads, Body 5.6x6.5mm, Pitch 0.65mm, IPC Low Density)
footprint DB0016A_L (SOP, 16-Leads, Body 5.6x6.5mm, Pitch 0.65mm, IPC High Density)
pins: 1 ~{CLR} (in), 2 CLK (in), 3 A (in), 4 B (in), 5 C (in), 6 D (in), 7 ENP (in), 8 GND (power), 9 ~{LOAD} (in), 10 ENT (in), 11 QD (out), 12 QC (out), 13 QB (out), 14 QA (out), 15 RCO (out), 16 VCC (power)

## SN74LV161ADGVR
designator U?
4-Bit Synchronous Binary Counters, DGV0016A, LARGE T&R; Generic Part Number: SN74LV161A; Manufacturer: Texas Instruments; PartNumber: SN74LV161ADGVR; VCC(Min)(V): 2; VCC(Max)(V): 5.5; Output Type: CMOS; Inputs: 1; ICC @ Nom Voltage(Max)(mA): 0.02; Bits(#): 4; F @ Nom Voltage(Max)(Mhz): 70,115; Rating: Catalog; Technology Family: LV-A; Voltage(Nom)(V): 2.5,3.3,5; Schmitt Trigger: No; Output Drive (IOL/IOH)(Max)(mA): 12/-12; tpd @ Nom Voltage(Max)(ns): 11.5; DatasheetVersion: SCLS404F; PackageReference: DGV0016A; Supplier 1: Mouser; Supplier Part Number 1: 595-SN74LV161ADGVR; Supplier 2: Digi-Key; Supplier Part Number 2: 296-12343-2-ND; Supplier 3: Digi-Key; Supplier Part Number 3: 296-12343-1-ND; Supplier 4: Digi-Key; Supplier Part Number 4: 296-12343-6-ND; Function: Counter; Input Type: CMOS; Operating Temperature Range(C): -40 to 85; Type: Binary; Code_JEDEC: MO-194; ComponentLink1Description: Manufacturer URL; ComponentLink1URL: http://www.ti.com/; ComponentLink2Description: Datasheet; ComponentLink2URL: http://www.ti.com/lit/ds/symlink/sn74lv161a.pdf; ComponentLink3Description: Package Specification; ComponentLink3URL: http://www.ti.com/lit/ml/mpds006c/mpds006c.pdf
footprint DGV0016A_N (SOP, 16-Leads, Body 4.5x3.7mm, Pitch 0.4mm, IPC Medium Density)
footprint DGV0016A_M (SOP, 16-Leads, Body 4.5x3.7mm, Pitch 0.4mm, IPC Low Density)
footprint DGV0016A_L (SOP, 16-Leads, Body 4.5x3.7mm, Pitch 0.4mm, IPC High Density)
pins: 1 ~{CLR} (in), 2 CLK (in), 3 A (in), 4 B (in), 5 C (in), 6 D (in), 7 ENP (in), 8 GND (power), 9 ~{LOAD} (in), 10 ENT (in), 11 QD (out), 12 QC (out), 13 QB (out), 14 QA (out), 15 RCO (out), 16 VCC (power)